# Altium footprint library MHDRA11130.PcbLib: 1 footprints
Each footprint in its own frame and in the unit in brackets; x right, y up, seen from the top. Pads: shape width x height; smd on the part's side, far side on the other; paste and mask are expansions set on the pad; w line width, h text height; cw(c..) or ccw(c..) is an arc to the next point about the centre after c.
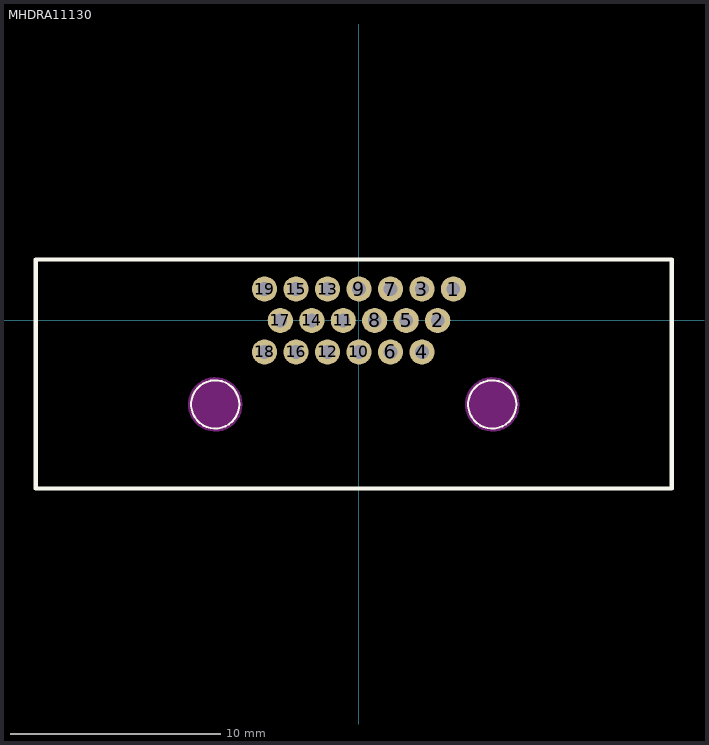
[diagram p0: the footprint, top view; thin cyan lines are the x and y axes]

## MHDRA11130 [mm] "MHDRA11130"
pads (19):
  round 1.2 / inner round 1 / far side round 1.1 hole 0.65 mask+0.015: 1(4.5,1.5) 2(3.75,0) 3(3,1.5) 4(3,-1.5) 5(2.25,0) 6(1.5,-1.5) 7(1.5,1.5) 8(0.75,0) 9(0,1.5) 10(0,-1.5) 11(-0.75,0) 12(-1.5,-1.5) 13(-1.5,1.5) 14(-2.25,0) 15(-3,1.5) 16(-3,-1.5) 17(-3.75,0) 18(-4.5,-1.5) 19(-4.5,1.5)
Top Overlay:
  circle w0.1: c-6.85,-4 r1.15
  circle w0.1: c6.35,-4 r1.15
  lines w0.2: -15.4,-8 -15.4,2.9 14.9,2.9 14.9,-8 -15.4,-8
Keep-Out Layer:
  board cut-out: -6.85,-5.15 -6.963,-5.15 -7.185,-5.106 -7.395,-5.019 -7.583,-4.893 -7.743,-4.733 -7.869,-4.545 -7.956,-4.335 -8,-4.113 -8,-4 -8,-3.887 -7.956,-3.665 -7.869,-3.455 -7.743,-3.267 -7.583,-3.107 -7.395,-2.981 -7.185,-2.894 -6.963,-2.85 -6.85,-2.85 -6.737,-2.85 -6.515,-2.894 -6.305,-2.981 -6.117,-3.107 -5.957,-3.267 -5.831,-3.455 -5.744,-3.665 -5.7,-3.887 -5.7,-4 -5.7,-4.113 -5.744,-4.335 -5.831,-4.545 -5.957,-4.733 -6.117,-4.893 -6.305,-5.019 -6.515,-5.106 -6.737,-5.15
  board cut-out: 6.35,-5.15 6.463,-5.15 6.685,-5.106 6.895,-5.019 7.083,-4.893 7.243,-4.733 7.369,-4.545 7.456,-4.335 7.5,-4.113 7.5,-4 7.5,-3.887 7.456,-3.665 7.369,-3.455 7.243,-3.267 7.083,-3.107 6.895,-2.981 6.685,-2.894 6.463,-2.85 6.35,-2.85 6.237,-2.85 6.015,-2.894 5.805,-2.981 5.617,-3.107 5.457,-3.267 5.331,-3.455 5.244,-3.665 5.2,-3.887 5.2,-4 5.2,-4.113 5.244,-4.335 5.331,-4.545 5.457,-4.733 5.617,-4.893 5.805,-5.019 6.015,-5.106 6.237,-5.15
Keep-Out Layer:
  circle w0.3: c-6.85,-4 r1.15
  circle w0.3: c6.35,-4 r1.15
Top Assembly:
  lines w0.1: -15.375,-8 14.925,-8 ; -15.4,-8 -15.4,2.9 14.9,2.9 14.9,-8 -15.4,-8
  text "'.Designator'" at -4.35,-5.6 h0.7
3D body "M-MHDR-A111-X0-REVT2.stp": height 12.18, standoff -2.82, extent -15.4,-14.005 14.9,2.9